# EAGLE library part WIRL-NFW2_2611011022000 (library WE_WIRL_Rev13.0)
Ophelia-III - Radio Module 2.4 GHz without firmware WIRL-NFW2 Details see: https://www.we-online.com/en/components/products/wco/wireless-connectivity_1/byof
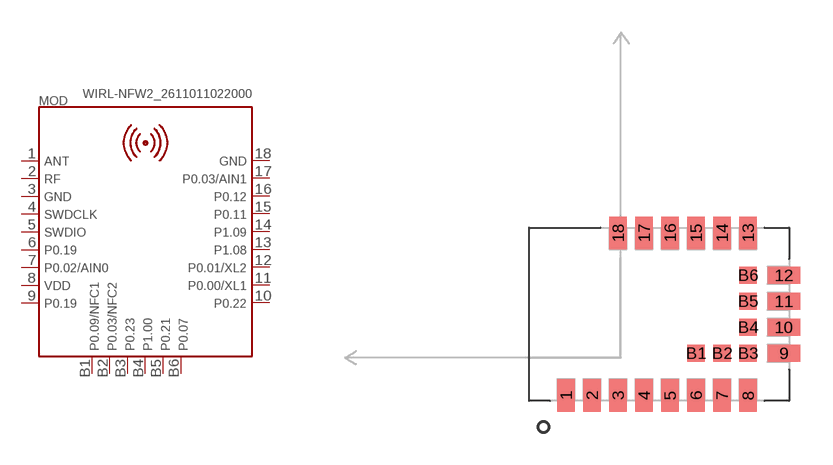
[diagram p40: symbol with the pads of WE-FP-4+; footprint WE-FP-4+]

Designator prefix MOD

## WIRL-NFW2_2611011022000 (HEIGHT: 2mm; MANUFACTURER: Würth Elektronik; NR: 2611011022000)  [WE-FP-4+]
1  1
2  2
3  3
4  4
5  5
6  6
7  7
8  8
9  9
10  10
11  11
12  12
13  13
14  14
15  15
16  16
17  17
18  18
B1  B1
B2  B2
B3  B3
B4  B4
B5  B5
B6  B6

## Footprint WE-FP-4+ (pad centres in mm)
smd 0.8 x 1.5: 1 -4.3,-3.75; 2 -3.1,-3.75; 3 -1.9,-3.75; 4 -0.7,-3.75; 5 0.5,-3.75; 6 1.7,-3.75; 7 2.9,-3.75; 8 4.1,-3.75; 13 4.1,3.75; 14 2.9,3.75; 15 1.7,3.75; 16 0.5,3.75; 17 -0.7,3.75; 18 -1.9,3.75
smd 1.5 x 0.8: 9 5.75,-1.8; 10 5.75,-0.6; 11 5.75,0.6; 12 5.75,1.8
smd 0.8 x 0.8: B1 1.7,-1.8; B2 2.9,-1.8; B3 4.1,-1.8; B4 4.1,-0.6; B5 4.1,0.6; B6 4.1,1.8